# EAGLE library part TC7W02FK (library chips)
NOR, 2-Array
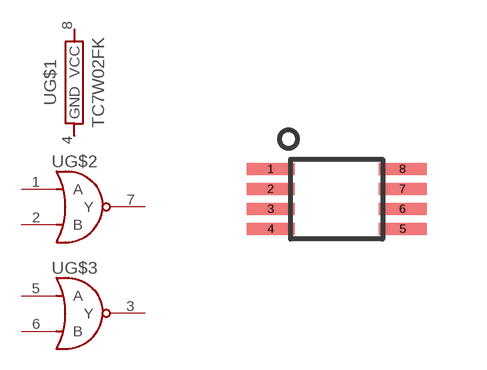
[diagram p53: symbol with the pads of SSOP-8; footprint SSOP-8]

Designator prefix U; gates G$1=SUPPLY G$2=NOR G$3=NOR

## TC7W02FK  [SSOP-8]
1  G$2:A
2  G$2:B
3  G$3:Y
4  G$1:GND
5  G$3:A
6  G$3:B
7  G$2:Y
8  G$1:VCC

## Footprint SSOP-8 (pad centres in mm)
smd 1.2 x 0.3: 1 -1.65,0.75; 2 -1.65,0.25; 3 -1.65,-0.25; 4 -1.65,-0.75; 5 1.65,-0.75; 6 1.65,-0.25; 7 1.65,0.25; 8 1.65,0.75